# EAGLE library part ARDUINO_NANO_V3 (library triakcz)
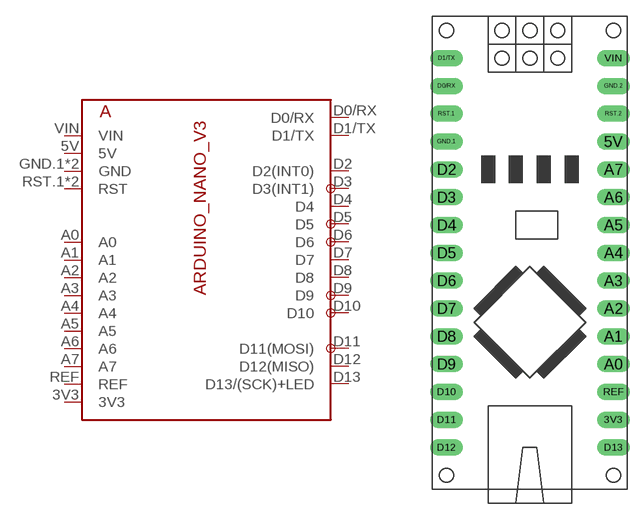
[diagram p0: symbol with the pads of ARDUINO_NANO_V3; footprint ARDUINO_NANO_V3]

Designator prefix A

## ARDUINO_NANO_V3  [ARDUINO_NANO_V3]
3V3  3V3  pwr
5V  5V  pwr
A0  A0
A1  A1
A2  A2
A3  A3
A4  A4
A5  A5
A6  A6
A7  A7
D0/RX  D0/RX  in
D1/TX  D1/TX  out
D2  D2(INT0)
D3  D3(INT1)
D4  D4
D5  D5
D6  D6
D7  D7
D8  D8
D9  D9
D10  D10
D11  D11(MOSI)
D12  D12(MISO)
D13  D13/(SCK)+LED
GND.1  GND  pwr
GND.2  GND  pwr
REF  REF
RST.1  RST  in
RST.2  RST  in
VIN  VIN  pwr

## Footprint ARDUINO_NANO_V3 (pad centres in mm)
drill 1 long: 3V3 15.24,2.54; 5V 15.24,27.94; A0 15.24,7.62; A1 15.24,10.16; A2 15.24,12.7; A3 15.24,15.24; A4 15.24,17.78; A5 15.24,20.32; A6 15.24,22.86; A7 15.24,25.4; D0/RX 0,33.02; D1/TX 0,35.56; D2 0,25.4; D3 0,22.86; D4 0,20.32; D5 0,17.78; D6 0,15.24; D7 0,12.7; D8 0,10.16; D9 0,7.62; D10 0,5.08; D11 0,2.54; D12 0,0; D13 15.24,0; GND.1 0,27.94; GND.2 15.24,33.02; REF 15.24,5.08; RST.1 0,30.48; RST.2 15.24,30.48; VIN 15.24,35.56